# Altium footprint library 00-100001-001.PcbLib: 2 footprints
Each footprint in its own frame and in the unit in brackets; x right, y up, seen from the top. Pads: shape width x height; smd on the part's side, far side on the other; paste and mask are expansions set on the pad; w line width, h text height; cw(c..) or ccw(c..) is an arc to the next point about the centre after c.

## CAPC1608X90N [mm] "Ceramic chip capacitor, 0603 (1608 metric), IPC-7351B nominal land pattern"

## PCBComponent_1 [mm]